# EAGLE library part PAM2421 (library Custom_old)
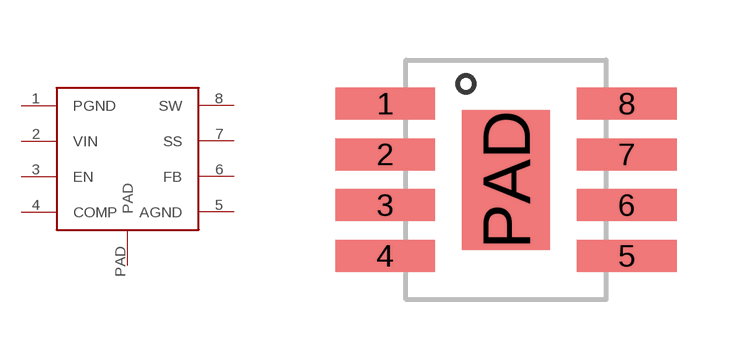
[diagram p15: symbol with the pads of SOIC8-EP; footprint SOIC8-EP]

Designator prefix -

## PAM2421  [SOIC8-EP]
1  PGND
2  VIN
3  EN
4  COMP
5  AGND
6  FB
7  SS
8  SW
PAD  PAD

## Footprint SOIC8-EP (pad centres in mm)
smd 2.5 x 0.8: 1 -3.02,1.905; 2 -3.02,0.635; 3 -3.02,-0.635; 4 -3.02,-1.905; 5 3.02,-1.905; 6 3.02,-0.635; 7 3.02,0.635; 8 3.02,1.905
smd 2.2 x 3.5: PAD 0,0